# EAGLE library part R-US_ARRAY_4 (library pepin)
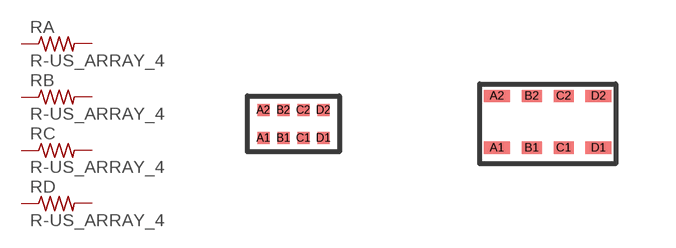
[diagram p11: symbol with the pads of TC124_ARRAY; footprints TC124_ARRAY, YC164_ARRAY]

Designator prefix R; gates A=R-US B=R-US C=R-US D=R-US

## R-US_ARRAY_4TC124  [TC124_ARRAY]
A1  A:1  pas
A2  A:2  pas
B1  B:1  pas
B2  B:2  pas
C1  C:1  pas
C2  C:2  pas
D1  D:1  pas
D2  D:2  pas

## R-US_ARRAY_4YC164  [YC164_ARRAY]
Pads as for TC124_ARRAY

## Footprint TC124_ARRAY (pad centres in mm)
smd 0.3 x 0.3: A1 -0.8,-0.35; A2 -0.8,0.35; B1 -0.3,-0.35; B2 -0.3,0.35; C1 0.2,-0.35; C2 0.2,0.35; D1 0.7,-0.35; D2 0.7,0.35

## Footprint YC164_ARRAY (pad centres in mm)
smd 0.65 x 0.3: A1 -1.32,-0.7; A2 -1.32,0.6; D1 1.22,-0.7; D2 1.22,0.6
smd 0.5 x 0.3: B1 -0.45,-0.7; B2 -0.45,0.6; C1 0.35,-0.7; C2 0.35,0.6